# EAGLE library part MMA7361L (library thecustomgeek)
Part MMA7361LCT from Freescale Semiconductor. 3 axis analog output Accelerometer with zero G detect, G select, and sleep.
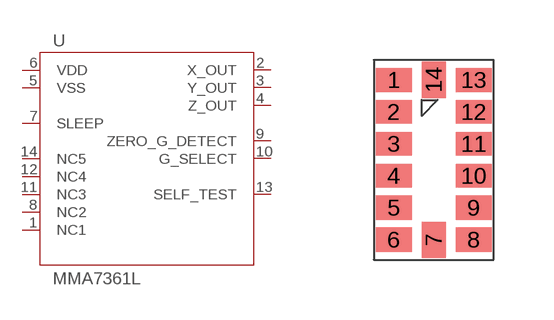
[diagram p0: symbol with the pads of MMA7361LLGA; footprint MMA7361LLGA]

Designator prefix -

## MMA7361L  [MMA7361LLGA]
1  NC1
2  X_OUT
3  Y_OUT
4  Z_OUT
5  VSS
6  VDD
7  SLEEP
8  NC2
9  ZERO_G_DETECT
10  G_SELECT
11  NC3
12  NC4
13  SELF_TEST
14  NC5

## Footprint MMA7361LLGA (pad centres in mm)
smd 0.9 x 0.6: 1 0.8,4.8; 2 0.8,4; 3 0.8,3.2; 4 0.8,2.4; 5 0.8,1.6; 6 0.8,0.8; 8 2.8,0.8; 9 2.8,1.6; 10 2.8,2.4; 11 2.8,3.2; 12 2.8,4; 13 2.8,4.8
smd 0.6 x 0.9: 7 1.8,0.8; 14 1.8,4.8